# EAGLE library part GY85 (library RMQLIFE)
gy85, accelerator, gyrometer, magmeter
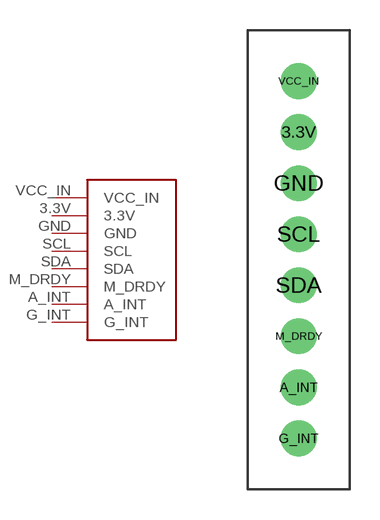
[diagram p0: symbol with the pads of GY85; footprint GY85]

Designator prefix -

## GY85  [GY85]
3.3V  3.3V
A_INT  A_INT
G_INT  G_INT
GND  GND
M_DRDY  M_DRDY
SCL  SCL
SDA  SDA
VCC_IN  VCC_IN

## Footprint GY85 (pad centres in mm)
drill 0.9 pad 1.778: 3.3V 0,6.35; A_INT 0,-6.35; G_INT 0,-8.89; GND 0,3.81; M_DRDY 0,-3.81; SCL 0,1.27; SDA 0,-1.27; VCC_IN 0,8.89